# EAGLE library part DC/DC_ISOLATED_DUAL_OUTPUT_RC (library Bauteile)
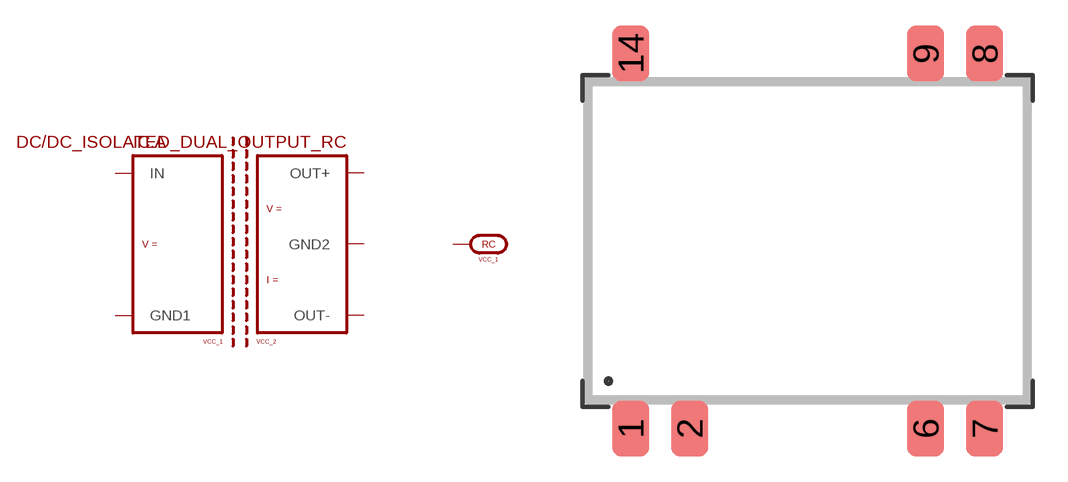
[diagram p205: symbol with the pads of TMR-1SM; footprint TMR-1SM]

Designator prefix IC; gates .A=DC/DC_ISOLATED_DUAL_OUTPUT .RC=PIN_RC

## DC/DC_ISOLATED_DUAL_OUTPUT_RC(TMR-1SM) (VALUE: TMR-1SM)  [TMR-1SM]
1  .A:GND1
2  .RC:RC
6  .A:GND2
7  .A:OUT-
8  .A:OUT+
9  .A:GND2
14  .A:IN

## Footprint TMR-1SM (pad centres in mm)
smd 1.6 x 2.4: 1 -7.62,-8.075; 2 -5.08,-8.075; 6 5.08,-8.075; 7 7.62,-8.075; 8 7.62,8.075; 9 5.08,8.075; 14 -7.62,8.075